# Altium schematic symbol library 31_lib.SchLib: 16 symbols
Pins are listed as number, name and electrical type; pins without a type are passive.

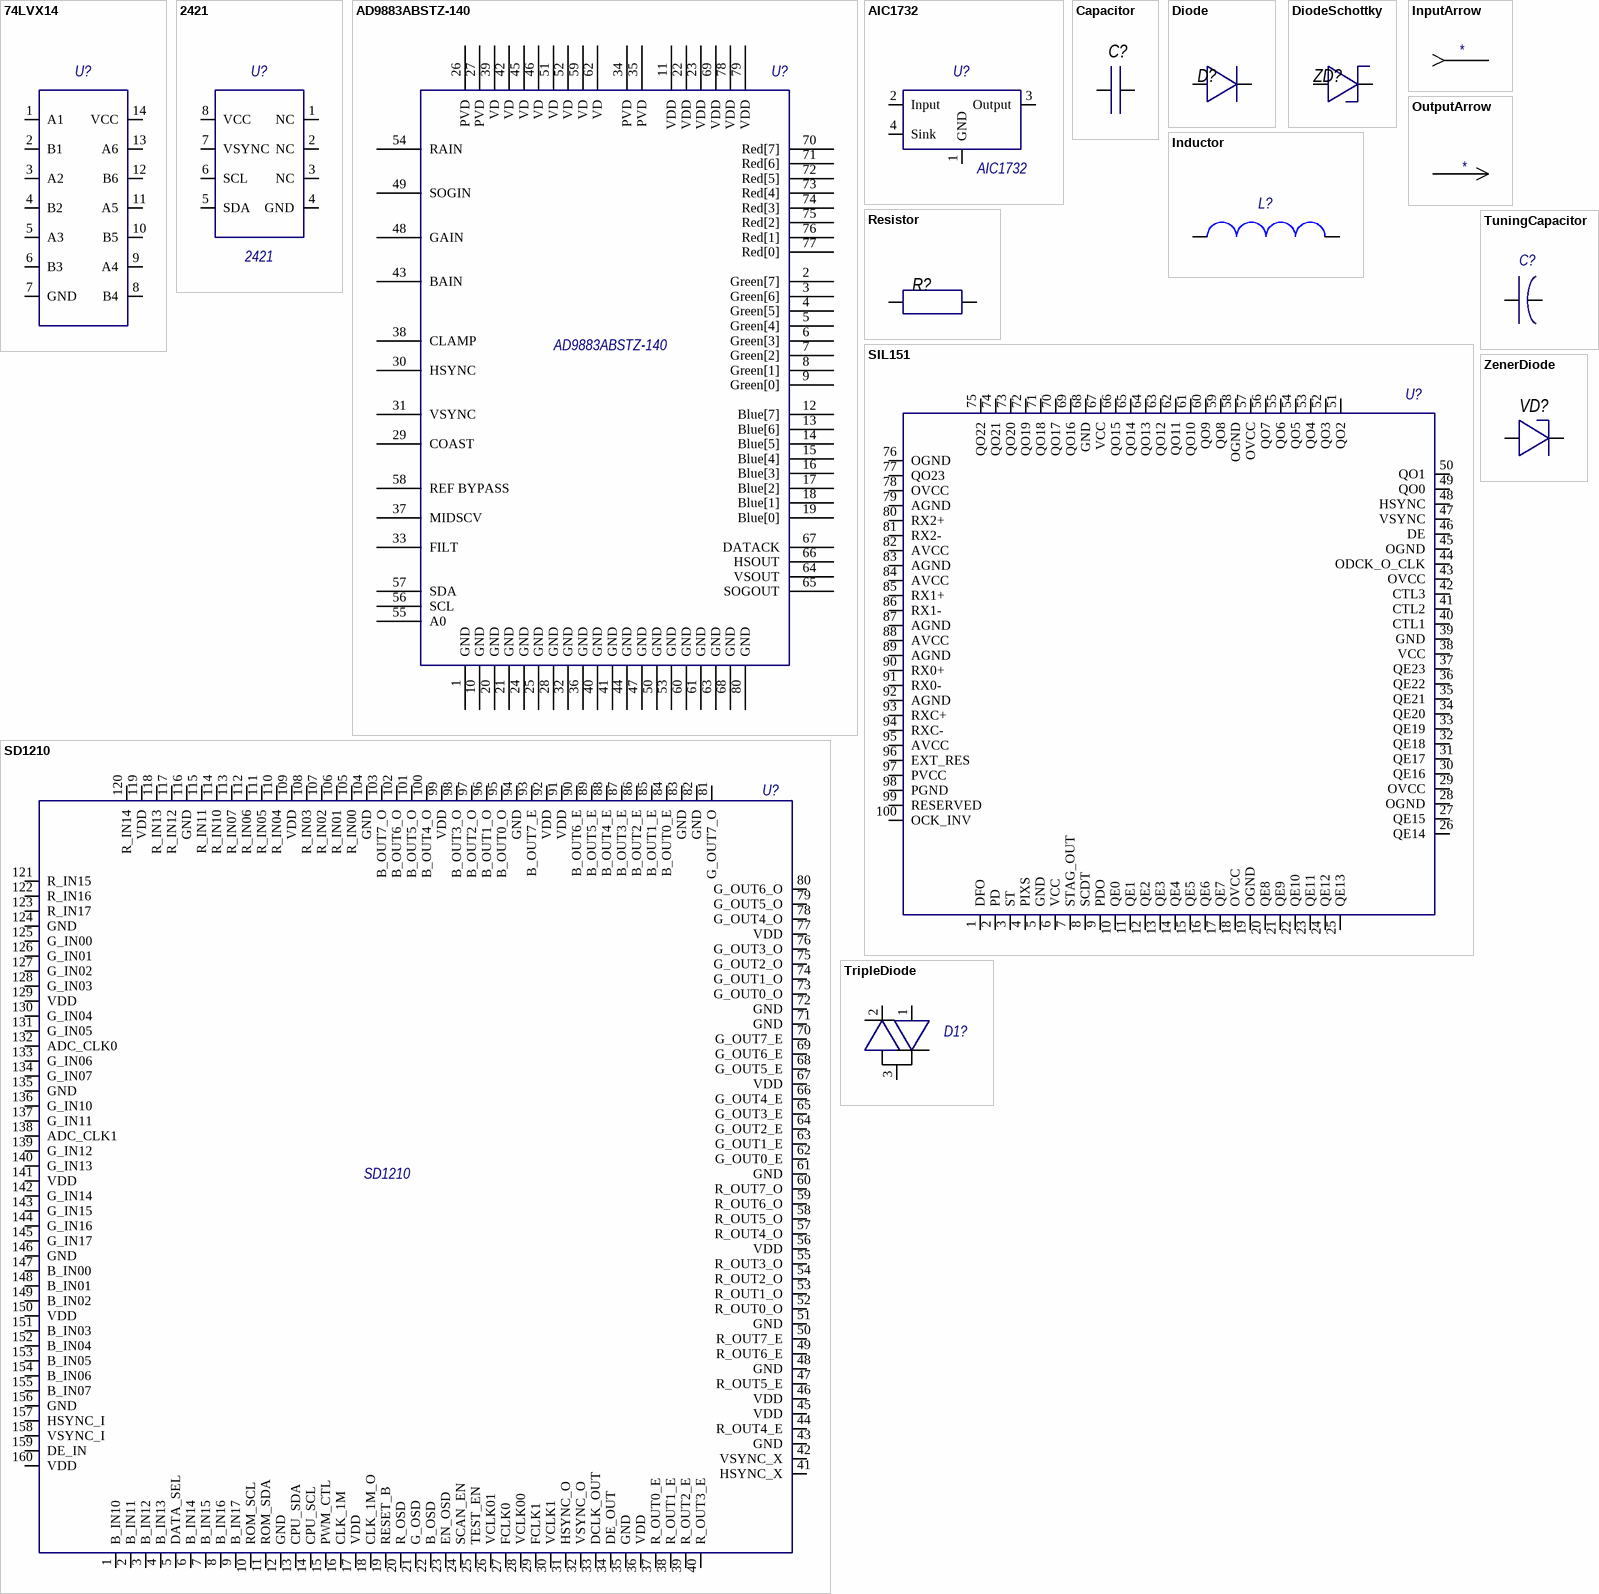
[diagram p0: symbols 74LVX14 to ZenerDiode]

## 74LVX14
designator U?  (value not drawn)
pins: 1 A1, 2 B1, 3 A2, 4 B2, 5 A3, 6 B3, 7 GND, 8 B4, 9 A4, 10 B5, 11 A5, 12 B6, 13 A6, 14 VCC

## 2421
designator U?
pins: 1 NC, 2 NC, 3 NC, 4 GND, 5 SDA, 6 SCL, 7 VSYNC, 8 VCC

## AD9883ABSTZ-140
designator U?
No Description Available; Built_By: EMA_UL_Team; Vendor: Analog Devices Inc; SourceLibrary: Analog_2012-01-01_6; Manufacturer_Part_Number: AD9883ABSTZ-140; Copyright: Copyright (C) 2018 Accelerated Designs. All rights reserved; RefDes: RefDes; Type: DEV
footprint ST_80_2_ADI
pins: 1 GND, 2 Green[7], 3 Green[6], 4 Green[5], 5 Green[4], 6 Green[3], 7 Green[2], 8 Green[1], 9 Green[0], 10 GND, 11 VDD (power), 12 Blue[7], 13 Blue[6], 14 Blue[5], 15 Blue[4], 16 Blue[3], 17 Blue[2], 18 Blue[1], 19 Blue[0], 20 GND, 21 GND, 22 VDD (power), 23 VDD (power), 24 GND, 25 GND, 26 PVD (power), 27 PVD (power), 28 GND, 29 COAST, 30 HSYNC, 31 VSYNC, 32 GND, 33 FILT, 34 PVD (power), 35 PVD (power), 36 GND, 37 MIDSCV, 38 CLAMP, 39 VD (power), 40 GND, 41 GND, 42 VD (power), 43 BAIN, 44 GND, 45 VD (power), 46 VD (power), 47 GND, 48 GAIN, 49 SOGIN, 50 GND, 51 VD (power), 52 VD (power), 53 GND, 54 RAIN, 55 A0, 56 SCL, 57 SDA, 58 REF BYPASS, 59 VD (power), 60 GND, 61 GND, 62 VD (power), 63 GND, 64 VSOUT, 65 SOGOUT, 66 HSOUT, 67 DATACK, 68 GND, 69 VDD (power), 70 Red[7], 71 Red[6], 72 Red[5], 73 Red[4], 74 Red[3], 75 Red[2], 76 Red[1], 77 Red[0], 78 VDD (power), 79 VDD (power), 80 GND

## AIC1732
designator U?
pins: 1 GND, 2 Input, 3 Output, 4 Sink

## Capacitor
designator C?  (value not drawn)
footprint Cap_tantal_D
pins: 1, 2

## Diode
designator D?  (value not drawn)
footprint zener_diode
pins: 1, 2

## DiodeSchottky
designator ZD?  (value not drawn)
footprint zener_diode
pins: 1, 2

## Inductor
designator L?  (value not drawn)
pins: 1, 2

## InputArrow
designator *  (value not drawn)
pins: 4

## OutputArrow
designator *  (value not drawn)
pins: 3

## Resistor
designator R?  (value not drawn)
footprint R_1206
pins: 1, 2

## SD1210
designator U?
pins: 1 B_IN10, 2 B_IN11, 3 B_IN12, 4 B_IN13, 5 DATA_SEL, 6 B_IN14, 7 B_IN15, 8 B_IN16, 9 B_IN17, 10 ROM_SCL, 11 ROM_SDA, 12 GND, 13 CPU_SDA, 14 CPU_SCL, 15 PWM_CTL, 16 CLK_1M, 17 VDD, 18 CLK_1M_O, 19 RESET_B, 20 R_OSD, 21 G_OSD, 22 B_OSD, 23 EN_OSD, 24 SCAN_EN, 25 TEST_EN, 26 VCLK01, 27 FCLK0, 28 VCLK00, 29 FCLK1, 30 VCLK1, 31 HSYNC_O, 32 VSYNC_O, 33 DCLK_OUT, 34 DE_OUT, 35 GND, 36 VDD, 37 R_OUT0_E, 38 R_OUT1_E, 39 R_OUT2_E, 40 R_OUT3_E, 41 HSYNC_X, 42 VSYNC_X, 43 GND, 44 R_OUT4_E, 45 VDD, 46 VDD, 47 R_OUT5_E, 48 GND, 49 R_OUT6_E, 50 R_OUT7_E, 51 GND, 52 R_OUT0_O, 53 R_OUT1_O, 54 R_OUT2_O, 55 R_OUT3_O, 56 VDD, 57 R_OUT4_O, 58 R_OUT5_O, 59 R_OUT6_O, 60 R_OUT7_O, 61 GND, 62 G_OUT0_E, 63 G_OUT1_E, 64 G_OUT2_E, 65 G_OUT3_E, 66 G_OUT4_E, 67 VDD, 68 G_OUT5_E, 69 G_OUT6_E, 70 G_OUT7_E, 71 GND, 72 GND, 73 G_OUT0_O, 74 G_OUT1_O, 75 G_OUT2_O, 76 G_OUT3_O, 77 VDD, 78 G_OUT4_O, 79 G_OUT5_O, 80 G_OUT6_O, 81 G_OUT7_O, 82 GND, 83 GND, 84 B_OUT0_E, 85 B_OUT1_E, 86 B_OUT2_E, 87 B_OUT3_E, 88 B_OUT4_E, 89 B_OUT5_E, 90 B_OUT6_E, 91 VDD, 92 VDD, 93 B_OUT7_E, 94 GND, 95 B_OUT0_O, 96 B_OUT1_O, 97 B_OUT2_O, 98 B_OUT3_O, 99 VDD, 100 B_OUT4_O, 101 B_OUT5_O, 102 B_OUT6_O, 103 B_OUT7_O, 104 GND, 105 R_IN00, 106 R_IN01, 107 R_IN02, 108 R_IN03, 109 VDD, 110 R_IN04, 111 R_IN05, 112 R_IN06, 113 R_IN07, 114 R_IN10, 115 R_IN11, 116 GND, 117 R_IN12, 118 R_IN13, 119 VDD, 120 R_IN14, 121 R_IN15, 122 R_IN16, 123 R_IN17, 124 GND, 125 G_IN00, 126 G_IN01, 127 G_IN02, 128 G_IN03, 129 VDD, 130 G_IN04, 131 G_IN05, 132 ADC_CLK0, 133 G_IN06, 134 G_IN07, 135 GND, 136 G_IN10, 137 G_IN11, 138 ADC_CLK1, 139 G_IN12, 140 G_IN13, 141 VDD, 142 G_IN14, 143 G_IN15, 144 G_IN16, 145 G_IN17, 146 GND, 147 B_IN00, 148 B_IN01, 149 B_IN02, 150 VDD, 151 B_IN03, 152 B_IN04, 153 B_IN05, 154 B_IN06, 155 B_IN07, 156 GND, 157 HSYNC_I, 158 VSYNC_I, 159 DE_IN, 160 VDD

## SIL151
designator U?  (value not drawn)
pins: 1 DFO, 2 PD, 3 ST, 4 PIXS, 5 GND, 6 VCC, 7 STAG_OUT, 8 SCDT, 9 PDO, 10 QE0, 11 QE1, 12 QE2, 13 QE3, 14 QE4, 15 QE5, 16 QE6, 17 QE7, 18 OVCC, 19 OGND, 20 QE8, 21 QE9, 22 QE10, 23 QE11, 24 QE12, 25 QE13, 26 QE14, 27 QE15, 28 OGND, 29 OVCC, 30 QE16, 31 QE17, 32 QE18, 33 QE19, 34 QE20, 35 QE21, 36 QE22, 37 QE23, 38 VCC, 39 GND, 40 CTL1, 41 CTL2, 42 CTL3, 43 OVCC, 44 ODCK_O_CLK, 45 OGND, 46 DE, 47 VSYNC, 48 HSYNC, 49 QO0, 50 QO1, 51 QO2, 52 QO3, 53 QO4, 54 QO5, 55 QO6, 56 QO7, 57 OVCC, 58 OGND, 59 QO8, 60 QO9, 61 QO10, 62 QO11, 63 QO12, 64 QO13, 65 QO14, 66 QO15, 67 VCC, 68 GND, 69 QO16, 70 QO17, 71 QO18, 72 QO19, 73 QO20, 74 QO21, 75 QO22, 76 OGND, 77 QO23, 78 OVCC, 79 AGND, 80 RX2+, 81 RX2-, 82 AVCC, 83 AGND, 84 AVCC, 85 RX1+, 86 RX1-, 87 AGND, 88 AVCC, 89 AGND, 90 RX0+, 91 RX0-, 92 AGND, 93 RXC+, 94 RXC-, 95 AVCC, 96 EXT_RES, 97 PVCC, 98 PGND, 99 RESERVED, 100 OCK_INV

## TripleDiode
designator D1?  (value not drawn)
pins: 1, 2, 3

## TuningCapacitor
designator C?  (value not drawn)
pins: 1, 2

## ZenerDiode
designator VD?  (value not drawn)
footprint zener_diode
pins: 1, 2